# Altium schematic symbol library Realtek.SchLib: 3 symbols
Pins are listed as number, name and electrical type; pins without a type are passive.

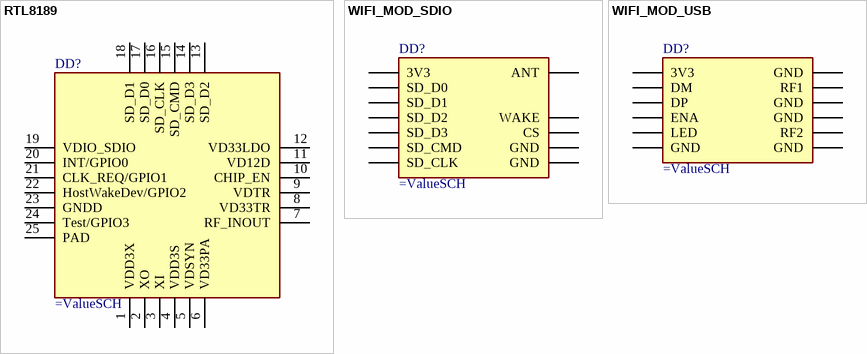
[diagram p0: symbols RTL8189 to WIFI_MOD_USB]

## RTL8189
designator DD?
pins: 1 VDD3X, 2 XO, 3 XI, 4 VDD3S, 5 VDSYN, 6 VD33PA, 7 RF_INOUT, 8 VD33TR, 9 VDTR, 10 CHIP_EN, 11 VD12D, 12 VD33LDO, 13 SD_D2, 14 SD_D3, 15 SD_CMD, 16 SD_CLK, 17 SD_D0, 18 SD_D1, 19 VDIO_SDIO, 20 INT/GPIO0, 21 CLK_REQ/GPIO1, 22 HostWakeDev/GPIO2, 23 GNDD, 24 Test/GPIO3, 25 PAD

## WIFI_MOD_SDIO
designator DD?
pins: 3V3, ANT, CS, GND, GND, SD_CLK, SD_CMD, SD_D0, SD_D1, SD_D2, SD_D3, WAKE

## WIFI_MOD_USB
designator DD?
pins: 3V3, DM, DP, ENA, GND, GND, GND, GND, GND, LED, RF1, RF2